# EAGLE library part BQ76940 (library bq769x0)
Description: bq769x0 from TI is a multi-cell battery monitoring chipset. It's fairly complex but has lots of useful features. Currently footprint and symbol are unproven.
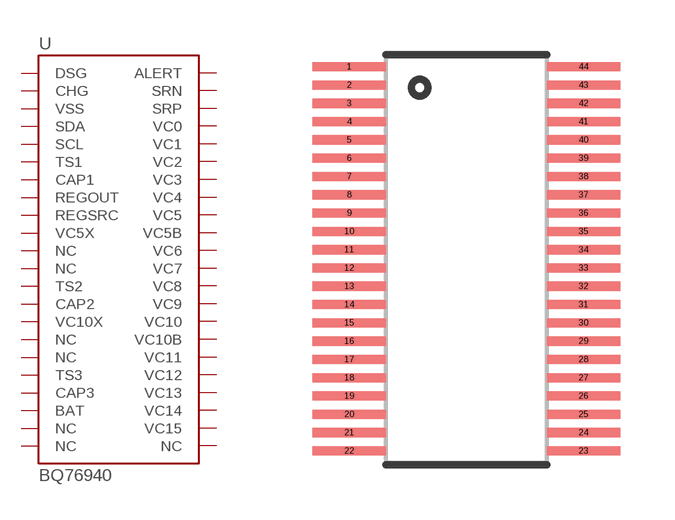
[diagram p0: symbol with the pads of 44-TSSOP; footprint 44-TSSOP]

Designator prefix -

## BQ7694040  [44-TSSOP]
1  DSG
2  CHG
3  VSS
4  SDA
5  SCL
6  TS1
7  CAP1
8  REGOUT
9  REGSRC
10  VC5X
11  NC
12  NC
13  TS2
14  CAP2
15  VC10X
16  NC
17  NC
18  TS3
19  CAP3
20  BAT
21  NC
22  NC
23  NC
24  VC15
25  VC14
26  VC13
27  VC12
28  VC11
29  VC10B
30  VC10
31  VC9
32  VC8
33  VC7
34  VC6
35  VC5B
36  VC5
37  VC4
38  VC3
39  VC2
40  VC1
41  VC0
42  SRP
43  SRN
44  ALERT

## Footprint 44-TSSOP (pad centres in mm)
smd 2 x 0.25: 1 -3.2,5.25; 2 -3.2,4.75; 3 -3.2,4.25; 4 -3.2,3.75; 5 -3.2,3.25; 6 -3.2,2.75; 7 -3.2,2.25; 8 -3.2,1.75; 9 -3.2,1.25; 10 -3.2,0.75; 11 -3.2,0.25; 12 -3.2,-0.25; 13 -3.2,-0.75; 14 -3.2,-1.25; 15 -3.2,-1.75; 16 -3.2,-2.25; 17 -3.2,-2.75; 18 -3.2,-3.25; 19 -3.2,-3.75; 20 -3.2,-4.25; 21 -3.2,-4.75; 22 -3.2,-5.25; 23 3.2,-5.25; 24 3.2,-4.75; 25 3.2,-4.25; 26 3.2,-3.75; 27 3.2,-3.25; 28 3.2,-2.75; 29 3.2,-2.25; 30 3.2,-1.75; 31 3.2,-1.25; 32 3.2,-0.75; 33 3.2,-0.25; 34 3.2,0.25; 35 3.2,0.75; 36 3.2,1.25; 37 3.2,1.75; 38 3.2,2.25; 39 3.2,2.75; 40 3.2,3.25; 41 3.2,3.75; 42 3.2,4.25; 43 3.2,4.75; 44 3.2,5.25